# EAGLE library part SN74LVC1G139 (library logick)
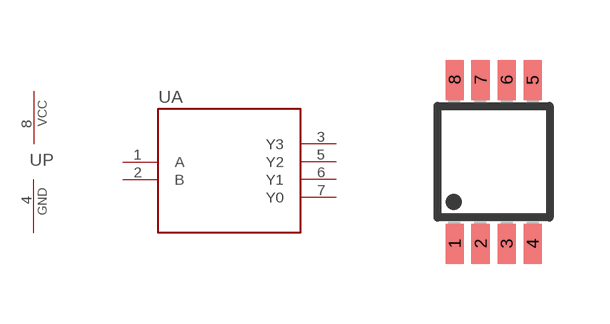
[diagram p14: symbol with the pads of MSOP8; footprint MSOP8]

Designator prefix -; gates A=SN74LVC1G139 P=PWRN

## SN74LVC1G139DCT  [MSOP8]
1  A:A
2  A:B
3  A:Y3
4  P:GND  pwr
5  A:Y2
6  A:Y1
7  A:Y0
8  P:VCC  pwr

## Footprint MSOP8 (pad centres in mm)
smd 0.45 x 1: 1 -0.975,-2.05; 2 -0.325,-2.05; 3 0.325,-2.05; 4 0.975,-2.05; 5 0.975,2.05; 6 0.325,2.05; 7 -0.325,2.05; 8 -0.975,2.05